# EAGLE library part TLC5947 (library Strutz Electronic Industries)
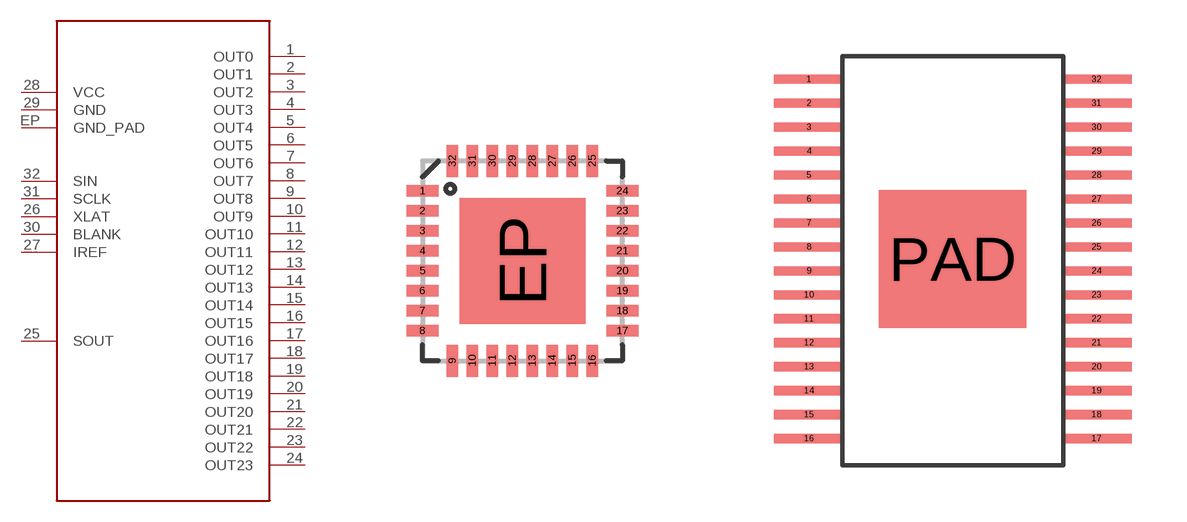
[diagram p10: symbol with the pads of QFN-32; footprints QFN-32, TSSOP-32]

Designator prefix -

## TLC5947QFN  [QFN-32]
1  OUT0
2  OUT1
3  OUT2
4  OUT3
5  OUT4
6  OUT5
7  OUT6
8  OUT7
9  OUT8
10  OUT9
11  OUT10
12  OUT11
13  OUT12
14  OUT13
15  OUT14
16  OUT15
17  OUT16
18  OUT17
19  OUT18
20  OUT19
21  OUT20
22  OUT21
23  OUT22
24  OUT23
25  SOUT  out
26  XLAT  in
27  IREF  in
28  VCC  pwr
29  GND  pwr
30  BLANK  in
31  SCLK  in
32  SIN  in
EP  GND_PAD  pwr

## TLC5947  [TSSOP-32]
1  GND  pwr
2  BLANK  in
3  SCLK  in
4  SIN  in
5  OUT0
6  OUT1
7  OUT2
8  OUT3
9  OUT4
10  OUT5
11  OUT6
12  OUT7
13  OUT8
14  OUT9
15  OUT10
16  OUT11
17  OUT12
18  OUT13
19  OUT14
20  OUT15
21  OUT16
22  OUT17
23  OUT18
24  OUT19
25  OUT20
26  OUT21
27  OUT22
28  OUT23
29  SOUT  out
30  XLAT  in
31  IREF  in
32  VCC  pwr
PAD  GND_PAD  pwr

## Footprint QFN-32 (pad centres in mm)
QFN 32-Pin package w/ Thermal Pad ***Unproven*** Applicable Parts: TLC5940
smd 0.8 x 0.285: 1 -2.5,1.75; 2 -2.5,1.25; 3 -2.5,0.75; 4 -2.5,0.25; 5 -2.5,-0.25; 6 -2.5,-0.75; 7 -2.5,-1.25; 8 -2.5,-1.75; 17 2.5,-1.75; 18 2.5,-1.25; 19 2.5,-0.75; 20 2.5,-0.25; 21 2.5,0.25; 22 2.5,0.75; 23 2.5,1.25; 24 2.5,1.75
smd 0.285 x 0.8: 9 -1.75,-2.5; 10 -1.25,-2.5; 11 -0.75,-2.5; 12 -0.25,-2.5; 13 0.25,-2.5; 14 0.75,-2.5; 15 1.25,-2.5; 16 1.75,-2.5; 25 1.75,2.5; 26 1.25,2.5; 27 0.75,2.5; 28 0.25,2.5; 29 -0.25,2.5; 30 -0.75,2.5; 31 -1.25,2.5; 32 -1.75,2.5
smd 3.15 x 3.15: EP 0,0

## Footprint TSSOP-32 (pad centres in mm)
smd 1.9 x 0.25: 1 -3.9,4.875; 2 -3.9,4.225; 3 -3.9,3.575; 4 -3.9,2.925; 5 -3.9,2.275; 6 -3.9,1.625; 7 -3.9,0.975; 8 -3.9,0.325; 9 -3.9,-0.325; 10 -3.9,-0.975; 11 -3.9,-1.625; 12 -3.9,-2.275; 13 -3.9,-2.925; 14 -3.9,-3.575; 15 -3.9,-4.225; 16 -3.9,-4.875; 17 3.9,-4.875; 18 3.9,-4.225; 19 3.9,-3.575; 20 3.9,-2.925; 21 3.9,-2.275; 22 3.9,-1.625; 23 3.9,-0.975; 24 3.9,-0.325; 25 3.9,0.325; 26 3.9,0.975; 27 3.9,1.625; 28 3.9,2.275; 29 3.9,2.925; 30 3.9,3.575; 31 3.9,4.225; 32 3.9,4.875
smd 4 x 3.75: PAD 0,0